# Altium schematic symbol library SCH - POWER - SWITCHMODE - TI TPS628502-Q1DRL.SchLib: 1 symbol
Pins are listed as number, name and electrical type; pins without a type are passive.

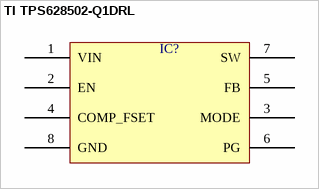
[diagram p0: symbol TI TPS628502-Q1DRL]

## TI TPS628502-Q1DRL
designator IC?  (value not drawn)
pins: 1 VIN, 2 EN, 3 MODE, 4 COMP_FSET, 5 FB, 6 PG, 7 SW, 8 GND